# Altium schematic symbol library BSPD_Schlib.SchLib: 27 symbols (part 1 of 2)
Pins are listed as number, name and electrical type; pins without a type are passive.

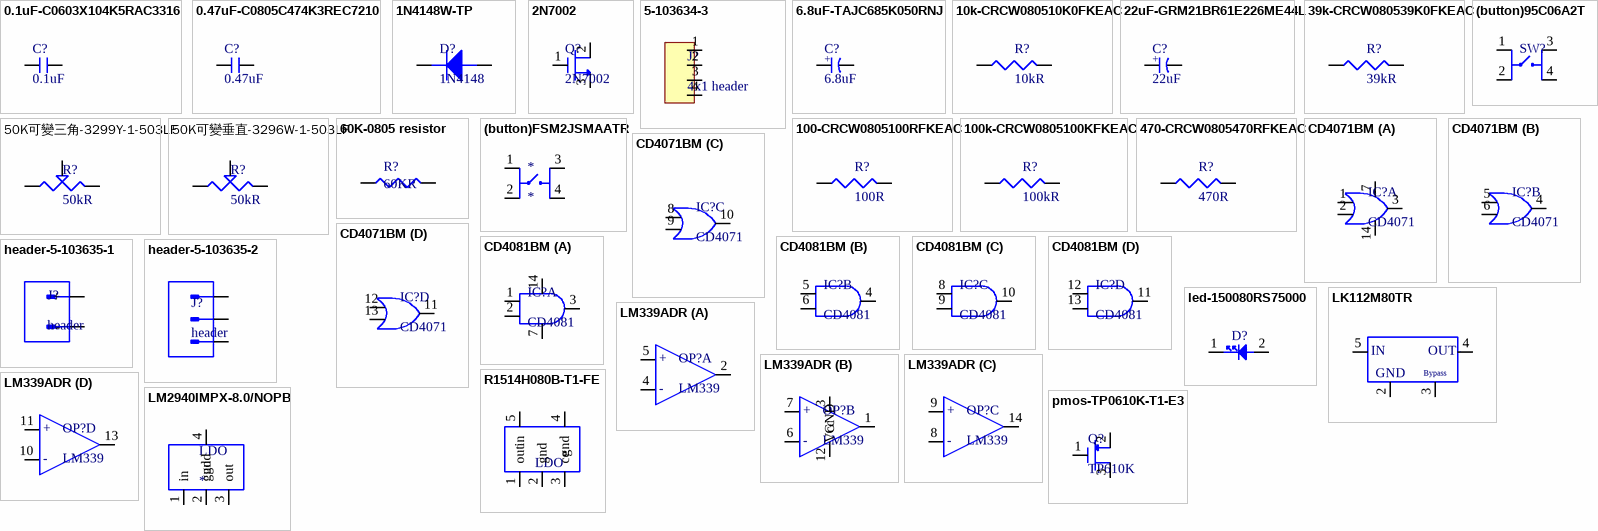
[diagram p0: symbols 0.1uF-C0603X104K5RAC3316 to R1514H080B-T1-FE]

## 0.1uF-C0603X104K5RAC3316
designator C?, comment 0.1uF
Cap Ceramic 0.1uF 50V X7R 10% Pad SMD 0603 Flexible Termination 125C Automotive; Manufacturer: KEMET; Manufacturer Part Number: C0603X104K5RAC3316; Supplier 1: Mouser; Supplier Part Number 1: 80-C0603X104K5R3316; Stock 1: 9731; Pricing 1: 1 = 0.19000, 10 = 0.12700, 100 = 0.06400, 500 = 0.04400, 1000 = 0.03800, 4000 = 0.03700 (USD); ComponentLink1URL: http://datasheet.octopart.com/C0603X104K5RAC3316-KEMET-datasheet-136663908.pdf?src-supplier=Allied+Electronics; ComponentLink1Description: http://datasheet.octopart.com/C0603X104K5RAC3316-KEMET-datasheet-136663908.pdf?src-supplier=Allied+Electronics
footprint 0603-0.1uF-Capacitor (Chip Capacitor, 2-Leads, Body 1.60x0.85mm, IPC Medium Density)
pins: 1, 2

## 0.47uF-C0805C474K3REC7210
designator C?, comment 0.47uF
Cap Cer 0805 470NF 25V X7R 10%; Manufacturer: KEMET; Manufacturer Part Number: C0805C474K3REC7210; Supplier 1: Mouser; Stock 1: 9935; Pricing 1: 1 = 0.30000, 10 = 0.14000, 100 = 0.09000, 500 = 0.08000, 1000 = 0.07000, 2000 = 0.06000 (USD); ComponentLink1URL: https://api.kemet.com/component-edge/download/datasheet/C0805C474K3REC7210.pdf?src-supplier=Digi-Key; ComponentLink1Description: https://api.kemet.com/component-edge/download/datasheet/C0805C474K3REC7210.pdf?src-supplier=Digi-Key; Supplier Part Number 1: 80-C0805C474K3RECLR
footprint 0805-0.47uF-CAPACITOR (Chip Capacitor, 2-Leads, Body 2.00x1.25mm, IPC Medium Density)
pins: 1, 2

## 1N4148W-TP
designator D?, comment 1N4148
1N4148W Series 100 V 150 mA 4 ns SMT High Speed Switching Diode - SOD-123; Manufacturer: MCC; Manufacturer Part Number: 1N4148W-TP; Max Surge Current: 2A; Forward Voltage: 1V; Forward Current: 150mA; Recovery Time: 4ns; Max Reverse Leakage Current: 5uA; Max Repetitive Reverse Voltage (Vrrm): 100V; Power Dissipation: 400mW; Max Forward Surge Current (Ifsm): 1A; Element Configuration: Single; Polarity: Standard; Capacitance: 4pF; Supplier 1: Digi-Key; Supplier Part Number 1: 1N4148WTPMSCT-ND; Stock 1: 726390; Pricing 1: 1 = 0.10000, 10 = 0.08100, 100 = 0.03400, 500 = 0.02670, 1000 = 0.01854 (USD); Mount: Surface Mount; Number of Pins: 2; Min Operating Temperature: -65°C; Max Operating Temperature: 150°C; Packaging: Tape and Reel; Package Quantity: 3000; Average Rectified Current: 150mA; Reverse Recovery Time: 4ns; Peak Non-Repetitive Surge Current: 2A; Voltage Rating (DC): 100V; Current Rating: 150mA; Output Current: 150mA; Max Reverse Voltage (DC): 100V; Length: 2.85mm; Height: 1.2mm; Width: 1.8mm; Radiation Hardening: No; REACH SVHC: Unknown; Lead Free: Lead Free; ComponentLink1URL: https://datasheet.ciiva.com/1243/1684829-1243908.pdf?src-supplier=Newark; ComponentLink1Description: https://datasheet.ciiva.com/1243/1684829-1243908.pdf?src-supplier=Newark; ComponentLink2URL: https://datasheet.ciiva.com/16836/1n4148wsod123-16836277.pdf?src-supplier=Future+Electronics; ComponentLink2Description: https://datasheet.ciiva.com/16836/1n4148wsod123-16836277.pdf?src-supplier=Future+Electronics; ComponentLink3URL: https://datasheet.ciiva.com/4435/1n4148wsod123-48460-4435223.pdf?src-supplier=Mouser; ComponentLink3Description: https://datasheet.ciiva.com/4435/1n4148wsod123-48460-4435223.pdf?src-supplier=Mouser; ComponentLink4URL: https://datasheet.ciiva.com/14557/70055519-14557767.pdf?src-supplier=Allied+Electronics; ComponentLink4Description: https://datasheet.ciiva.com/14557/70055519-14557767.pdf?src-supplier=Allied+Electronics; ComponentLink5URL: https://datasheet.ciiva.com/911/1n4148wsod123-911676.pdf?src-supplier=Digi-Key; ComponentLink5Description: https://datasheet.ciiva.com/911/1n4148wsod123-911676.pdf?src-supplier=Digi-Key; ComponentLink6URL: https://datasheet.ciiva.com/7622/1684829-7622556.pdf?src-supplier=Element14; ComponentLink6Description: https://datasheet.ciiva.com/7622/1684829-7622556.pdf?src-supplier=Element14; ComponentLink7URL: https://datasheet.ciiva.com/911/1n4148wsod123-911677.pdf?src-supplier=Digi-Key; ComponentLink7Description: https://datasheet.ciiva.com/911/1n4148wsod123-911677.pdf?src-supplier=Digi-Key; ComponentLink8URL: https://datasheet.ciiva.com/911/1n4148wsod123-911678.pdf?src-supplier=Digi-Key; ComponentLink8Description: https://datasheet.ciiva.com/911/1n4148wsod123-911678.pdf?src-supplier=Digi-Key; ComponentLink9URL: https://datasheet.ciiva.com/22747/1684829-22747439.pdf?src-supplier=Element14; ComponentLink9Description: https://datasheet.ciiva.com/22747/1684829-22747439.pdf?src-supplier=Element14; ComponentLink10URL: http://datasheet.octopart.com/1N4148W-TP-Micro-Commercial-datasheet-60845.pdf?src-supplier=Element14; ComponentLink10Description: http://datasheet.octopart.com/1N4148W-TP-Micro-Commercial-datasheet-60845.pdf?src-supplier=Element14; ComponentLink11URL: http://datasheet.octopart.com/1N4148W-TP-MCC-datasheet-8327246.pdf?src-supplier=Future+Electronics; ComponentLink11Description: http://datasheet.octopart.com/1N4148W-TP-MCC-datasheet-8327246.pdf?src-supplier=Future+Electronics; ComponentLink12URL: http://datasheet.octopart.com/1N4148W-TP-MCC-datasheet-124568.pdf?src-supplier=Future+Electronics; ComponentLink12Description: http://datasheet.octopart.com/1N4148W-TP-MCC-datasheet-124568.pdf?src-supplier=Future+Electronics; ComponentLink13URL: http://datasheet.octopart.com/1N4148W-TP-MCC-datasheet-10003094.pdf?src-supplier=Allied+Electronics; ComponentLink13Description: http://datasheet.octopart.com/1N4148W-TP-MCC-datasheet-10003094.pdf?src-supplier=Allied+Electronics; ComponentLink14URL: http://datasheet.octopart.com/1N4148W-TP-Micro-Commercial-datasheet-11773887.pdf?src-supplier=Arrow; ComponentLink14Description: http://datasheet.octopart.com/1N4148W-TP-Micro-Commercial-datasheet-11773887.pdf?src-supplier=Arrow; ComponentLink15URL: http://datasheet.octopart.com/1N4148W-TP-Micro-Commercial-datasheet-13551187.pdf?src-supplier=Future+Electronics; ComponentLink15Description: http://datasheet.octopart.com/1N4148W-TP-Micro-Commercial-datasheet-13551187.pdf?src-supplier=Future+Electronics; ComponentLink16URL: http://datasheet.octopart.com/1N4148W-TP-MCC-datasheet-133511570.pdf?src-supplier=Future+Electronics; ComponentLink16Description: http://datasheet.octopart.com/1N4148W-TP-MCC-datasheet-133511570.pdf?src-supplier=Future+Electronics; ComponentLink17URL: http://datasheet.octopart.com/1N4148W-TP-MCC-datasheet-134792309.pdf?src-supplier=TME; ComponentLink17Description: http://datasheet.octopart.com/1N4148W-TP-MCC-datasheet-134792309.pdf?src-supplier=TME; Supplier 2: Mouser; Supplier Part Number 2: 833-1N4148W-TP
footprint 1N4148W-TP (SODFL, 2-Leads, Body 1.60x4.18mm, IPC Medium Density)
pins: 1 -, 2 +

## 2N7002
designator Q?
MOSFET 60V 7.5Ohm; Manufacturer: Microchip Supertex; Continuous Drain Current (ID): 115mA; Drain to Source Resistance: 7.5R; Gate to Source Voltage (Vgs): 30V; Element Configuration: Single; Number of Channels: 1; Max Power Dissipation: 360mW; Supplier 1: Mouser; Manufacturer Part Number: 2N7002; RoHS: No; Case/Package: SOT-23-3; Number of Pins: 3; Weight: 0.050717oz; Min Operating Temperature: -55°C; Max Operating Temperature: 150°C; Drain to Source Voltage (Vdss): 60V; Voltage Rating (DC): 60V; Current Rating: 115mA; Package Quantity: 3000; Length: 2.92mm; Height: 0.93mm; Width: 1.3mm; Lead Free: Lead Free; REACH SVHC: No SVHC; ComponentLink1URL: http://components.arrow.com/part/dataview/2250345S543536N1389?src-supplier=Arrow; ComponentLink1Description: http://components.arrow.com/part/dataview/2250345S543536N1389?src-supplier=Arrow; ComponentLink2URL: http://www.mouser.com/ds/2/268/supertex_2n7002-522862.pdf?src-supplier=Mouser; ComponentLink2Description: http://www.mouser.com/ds/2/268/supertex_2n7002-522862.pdf?src-supplier=Mouser; Supplier Part Number 1: 689-2N7002
footprint 2N7002 (SOT23, 3-Leads, Body 2.90x2.45mm, Pitch 0.95mm, IPC Medium Density)
pins: 1, 2, 3

## 5-103634-3
designator J?, comment 4x1 header
Conn Shrouded Header (4 Sides) HDR 4 POS 2.54mm Solder RA Thru-Hole Box/Tube; Manufacturer: TE Connectivity; Manufacturer Part Number: 5-103634-3; Contact Resistance: 15mR; Current Rating: 3A; Voltage Rating: 250V; Number of Positions: 4; Insulation Resistance: 5GR; Connector Type: Plug; Backwall/Post Interruptions: No (Without); Contact Retention: Yes (With); Plating Thickness: 2.54um; PCB Mount Retention: Without; PCB Mounting Orientation: Right Angle; Row Spacing: 0.1inch; Tail Length: 3.3mm; Approvals: CSA; Supplier 1: Mouser; Supplier Part Number 1: 571-5-103634-3; Stock 1: 289; Pricing 1: 1 = 1.23000, 10 = 1.02000, 100 = 0.91700, 500 = 0.79700, 1000 = 0.72100, 2500 = 0.58900, 25000 = 0.58000, 50000 = 0.56600 (USD); Mount: Through Hole; Color: Black; Contact Plating: Tin; Contact Material: Brass; Housing Color: Black; Housing Material: Thermoplastic; Contact Shape: Square; Min Operating Temperature: -65°C; Max Operating Temperature: 105°C; Package Quantity: 42; Number of Rows: 1; Packaging: Rail/Tube; Contact Gender: Male; Termination: Crimp; Number of Contacts: 4; Orientation: Right Angle; Mating Alignment: Yes (With); Mating Retention: Yes (With); PCB Mount Alignment: No (Without); Strain Relief: No (Without); Contact Current Rating: 3A; Length: 12.7mm; Height: 13.59mm; Pitch: 2.54mm; Contact Mating Length: 0.23inch; Depth: 13.59mm; REACH SVHC: No SVHC; Flammability Rating: UL94 V-0; ComponentLink1URL: https://datasheet.ciiva.com/709/eng-cd-103634-u2-709984.pdf?src-supplier=Digi-Key; ComponentLink1Description: https://datasheet.ciiva.com/709/eng-cd-103634-u2-709984.pdf?src-supplier=Digi-Key; ComponentLink2URL: https://datasheet.ciiva.com/30493/0900766b80f9a687-30493821.pdf?src-supplier=RSComponents; ComponentLink2Description: https://datasheet.ciiva.com/30493/0900766b80f9a687-30493821.pdf?src-supplier=RSComponents; ComponentLink3URL: https://datasheet.ciiva.com/16497/eng-cs-1307819-section-5-cont-0808-16497095.pdf?src-supplier=Avnet+Asia; ComponentLink3Description: https://datasheet.ciiva.com/16497/eng-cs-1307819-section-5-cont-0808-16497095.pdf?src-supplier=Avnet+Asia; ComponentLink4URL: https://datasheet.ciiva.com/7800/1651634-7800366.pdf?src-supplier=Element14; ComponentLink4Description: https://datasheet.ciiva.com/7800/1651634-7800366.pdf?src-supplier=Element14; ComponentLink5URL: https://datasheet.ciiva.com/14644/70087799-14644933.pdf?src-supplier=Allied+Electronics; ComponentLink5Description: https://datasheet.ciiva.com/14644/70087799-14644933.pdf?src-supplier=Allied+Electronics; ComponentLink6URL: https://datasheet.ciiva.com/9484/eng-cs-1307819-section-5-cont-0808-9484872.pdf?src-supplier=Avnet; ComponentLink6Description: https://datasheet.ciiva.com/9484/eng-cs-1307819-section-5-cont-0808-9484872.pdf?src-supplier=Avnet; ComponentLink7URL: https://datasheet.ciiva.com/46442/1651634-46442506.pdf?src-supplier=Element14; ComponentLink7Description: https://datasheet.ciiva.com/46442/1651634-46442506.pdf?src-supplier=Element14; ComponentLink8URL: https://datasheet.ciiva.com/16355/eng-ds-4-1773458-0-ampmodu-mte-interconnect-sys-0411-16355979.pdf?src-supplier=Future+Electronics; ComponentLink8Description: https://datasheet.ciiva.com/16355/eng-ds-4-1773458-0-ampmodu-mte-interconnect-sys-0411-16355979.pdf?src-supplier=Future+Electronics; ComponentLink9URL: http://datasheet.octopart.com/5-103634-3-TE-Connectivity-datasheet-11077636.pdf?src-supplier=Newark; ComponentLink9Description: http://datasheet.octopart.com/5-103634-3-TE-Connectivity-datasheet-11077636.pdf?src-supplier=Newark; ComponentLink10URL: http://datasheet.octopart.com/5-103634-3-TE-Connectivity-datasheet-136861139.pdf?src-supplier=ShanghaiCT; ComponentLink10Description: http://datasheet.octopart.com/5-103634-3-TE-Connectivity-datasheet-136861139.pdf?src-supplier=ShanghaiCT; ComponentLink11URL: http://sigma.octopart.com/15108092/technical_drawing/TE-Connectivity-5-103634-3.pdf?src-supplier=Farnell; ComponentLink11Description: http://sigma.octopart.com/15108092/technical_drawing/TE-Connectivity-5-103634-3.pdf?src-supplier=Farnell; ComponentLink12URL: http://datasheet.octopart.com/5-103634-3-TE-Connectivity-datasheet-8324834.pdf?src-supplier=Master+Electronics; ComponentLink12Description: http://datasheet.octopart.com/5-103634-3-TE-Connectivity-datasheet-8324834.pdf?src-supplier=Master+Electronics; ComponentLink13URL: http://sigma.octopart.com/101751519/technical_drawing/TE-Connectivity-5-103634-3.pdf?src-supplier=Future+Electronics; ComponentLink13Description: http://sigma.octopart.com/101751519/technical_drawing/TE-Connectivity-5-103634-3.pdf?src-supplier=Future+Electronics; ComponentLink14URL: http://sigma.octopart.com/77852267/technical_drawing/TE-Connectivity-5-103634-3.pdf?src-supplier=TE+Connectivity; ComponentLink14Description: http://sigma.octopart.com/77852267/technical_drawing/TE-Connectivity-5-103634-3.pdf?src-supplier=TE+Connectivity; ComponentLink15URL: http://datasheet.octopart.com/5-103634-3-Agastat-datasheet-13560061.pdf?src-supplier=TE+Connectivity; ComponentLink15Description: http://datasheet.octopart.com/5-103634-3-Agastat-datasheet-13560061.pdf?src-supplier=TE+Connectivity; ComponentLink16URL: http://datasheet.octopart.com/5-103634-3-TE-Connectivity-datasheet-9653333.pdf?src-supplier=Allied+Electronics; ComponentLink16Description: http://datasheet.octopart.com/5-103634-3-TE-Connectivity-datasheet-9653333.pdf?src-supplier=Allied+Electronics; ComponentLink17URL: http://datasheet.octopart.com/5-103634-3-Tyco-Electronics-datasheet-508243.pdf?src-supplier=Future+Electronics; ComponentLink17Description: http://datasheet.octopart.com/5-103634-3-Tyco-Electronics-datasheet-508243.pdf?src-supplier=Future+Electronics; ComponentLink18URL: http://datasheet.octopart.com/5-103634-3-Tyco-Electronics-datasheet-8817613.pdf?src-supplier=Future+Electronics; ComponentLink18Description: http://datasheet.octopart.com/5-103634-3-Tyco-Electronics-datasheet-8817613.pdf?src-supplier=Future+Electronics; catagory: header
footprint *TE_5-103634-3
footprint *TE_5-103634-3
pins: 1 79, 2 80, 3 81, 4 82

## 6.8uF-TAJC685K050RNJ
designator C?, comment 6.8uF
Cap Tant Solid 6.8uF 50V C CASE 10% (6 X 3.2 X 2.6mm) Inward L SMD 6032-28 1 Ohm 125C T/R; Manufacturer: AVX; Manufacturer Part Number: TAJC685K050RNJ; Dielectric Material: Tantalum; ESR (Equivalent Series Resistance): 1R; Leakage Current: 3.4uA; Polarity: Polar; Dissipation Factor: 6%; Supplier 1: Mouser; Supplier Part Number 1: 581-TAJC685K050RNJ; Stock 1: 13768; Pricing 1: 1 = 1.27000, 10 = 0.96300, 100 = 0.75300, 500 = 0.49500, 1000 = 0.43600, 2500 = 0.42200 (USD); Mount: Surface Mount; Case/Package: Molded; Weight: 0.005291oz; Case Code (Metric): 6032; Case Code (Imperial): 2312; Min Operating Temperature: -55°C; Max Operating Temperature: 125°C; Capacitance: 6.8uF; Tolerance: 10%; Voltage Rating: 50V; Packaging: Tape and Reel; Package Quantity: 1; Termination: SMD/SMT; Voltage Rating (DC): 50V; Features: General Purpose; Length: 6mm; Height: 2.8mm; Width: 0.126inch; Height - Seated (Max): 0.11inch; Depth: 3.2mm; Radiation Hardening: No; REACH SVHC: No SVHC; Lead Free: Lead Free; ComponentLink1URL: https://datasheet.ciiva.com/267/taj-267945.pdf?src-supplier=Digi-Key; ComponentLink1Description: https://datasheet.ciiva.com/267/taj-267945.pdf?src-supplier=Digi-Key; ComponentLink2URL: https://datasheet.ciiva.com/267/taj-267946.pdf?src-supplier=Digi-Key; ComponentLink2Description: https://datasheet.ciiva.com/267/taj-267946.pdf?src-supplier=Digi-Key; ComponentLink3URL: https://datasheet.ciiva.com/267/taj-267947.pdf?src-supplier=Digi-Key; ComponentLink3Description: https://datasheet.ciiva.com/267/taj-267947.pdf?src-supplier=Digi-Key; ComponentLink4URL: https://datasheet.ciiva.com/12910/taj-27497-12910591.pdf?src-supplier=Mouser; ComponentLink4Description: https://datasheet.ciiva.com/12910/taj-27497-12910591.pdf?src-supplier=Mouser; ComponentLink5URL: https://datasheet.ciiva.com/17338/taj-17338791.pdf?src-supplier=Avnet+Europe; ComponentLink5Description: https://datasheet.ciiva.com/17338/taj-17338791.pdf?src-supplier=Avnet+Europe; ComponentLink6URL: http://datasheet.octopart.com/TAJC685K050RNJ-AVX-datasheet-50868559.pdf?src-supplier=AVX; ComponentLink6Description: http://datasheet.octopart.com/TAJC685K050RNJ-AVX-datasheet-50868559.pdf?src-supplier=AVX; ComponentLink7URL: http://datasheet.octopart.com/TAJC685K050RNJ-AVX-datasheet-5313859.pdf?src-supplier=Element14; ComponentLink7Description: http://datasheet.octopart.com/TAJC685K050RNJ-AVX-datasheet-5313859.pdf?src-supplier=Element14; ComponentLink8URL: http://datasheet.octopart.com/TAJC685K050RNJ-AVX-datasheet-78694144.pdf?src-supplier=Element14; ComponentLink8Description: http://datasheet.octopart.com/TAJC685K050RNJ-AVX-datasheet-78694144.pdf?src-supplier=Element14; ComponentLink9URL: http://datasheet.octopart.com/TAJC685K050RNJ-AVX-Interconnect---Elco-datasheet-8359467.pdf; ComponentLink9Description: http://datasheet.octopart.com/TAJC685K050RNJ-AVX-Interconnect---Elco-datasheet-8359467.pdf; ComponentLink10URL: http://datasheet.octopart.com/TAJC685K050RNJ-AVX-Interconnect---Elco-datasheet-8398506.pdf; ComponentLink10Description: http://datasheet.octopart.com/TAJC685K050RNJ-AVX-Interconnect---Elco-datasheet-8398506.pdf; ComponentLink11URL: http://datasheet.octopart.com/TAJC685K050RNJ-AVX-Interconnect---Elco-datasheet-12511273.pdf; ComponentLink11Description: http://datasheet.octopart.com/TAJC685K050RNJ-AVX-Interconnect---Elco-datasheet-12511273.pdf; ComponentLink12URL: http://datasheet.octopart.com/TAJC685K050RNJ-AVX-Interconnect---Elco-datasheet-5308206.pdf?src-supplier=Factory+Futures; ComponentLink12Description: http://datasheet.octopart.com/TAJC685K050RNJ-AVX-Interconnect---Elco-datasheet-5308206.pdf?src-supplier=Factory+Futures; ComponentLink13URL: http://datasheet.octopart.com/TAJC685K050RNJ-AVX-Interconnect---Elco-datasheet-5393561.pdf?src-supplier=Factory+Futures; ComponentLink13Description: http://datasheet.octopart.com/TAJC685K050RNJ-AVX-Interconnect---Elco-datasheet-5393561.pdf?src-supplier=Factory+Futures; ComponentLink14URL: http://datasheet.octopart.com/TAJC685K050RNJ-AVX-Interconnect---Elco-datasheet-5428838.pdf?src-supplier=Factory+Futures; ComponentLink14Description: http://datasheet.octopart.com/TAJC685K050RNJ-AVX-Interconnect---Elco-datasheet-5428838.pdf?src-supplier=Factory+Futures; ComponentLink15URL: http://datasheet.octopart.com/TAJC685K050RNJ-AVX-Interconnect---Elco-datasheet-8324253.pdf?src-supplier=Factory+Futures; ComponentLink15Description: http://datasheet.octopart.com/TAJC685K050RNJ-AVX-Interconnect---Elco-datasheet-8324253.pdf?src-supplier=Factory+Futures; ComponentLink16URL: http://datasheet.octopart.com/TAJC685K050RNJ-AVX-Interconnect---Elco-datasheet-8447299.pdf?src-supplier=Factory+Futures; ComponentLink16Description: http://datasheet.octopart.com/TAJC685K050RNJ-AVX-Interconnect---Elco-datasheet-8447299.pdf?src-supplier=Factory+Futures; ComponentLink17URL: http://datasheet.octopart.com/TAJC685K050RNJ-AVX-Interconnect---Elco-datasheet-8621976.pdf?src-supplier=Factory+Futures; ComponentLink17Description: http://datasheet.octopart.com/TAJC685K050RNJ-AVX-Interconnect---Elco-datasheet-8621976.pdf?src-supplier=Factory+Futures; ComponentLink18URL: http://datasheet.octopart.com/TAJC685K050RNJ-AVX-Interconnect---Elco-datasheet-8701730.pdf?src-supplier=Factory+Futures; ComponentLink18Description: http://datasheet.octopart.com/TAJC685K050RNJ-AVX-Interconnect---Elco-datasheet-8701730.pdf?src-supplier=Factory+Futures; ComponentLink19URL: http://datasheet.octopart.com/TAJC685K050RNJ-AVX-Interconnect---Elco-datasheet-8715220.pdf?src-supplier=Factory+Futures; ComponentLink19Description: http://datasheet.octopart.com/TAJC685K050RNJ-AVX-Interconnect---Elco-datasheet-8715220.pdf?src-supplier=Factory+Futures; ComponentLink20URL: http://datasheet.octopart.com/TAJC685K050RNJ-AVX-Interconnect---Elco-datasheet-8836325.pdf?src-supplier=Factory+Futures; ComponentLink20Description: http://datasheet.octopart.com/TAJC685K050RNJ-AVX-Interconnect---Elco-datasheet-8836325.pdf?src-supplier=Factory+Futures; ComponentLink21URL: http://datasheet.octopart.com/TAJC685K050RNJ-AVX-Interconnect---Elco-datasheet-8853265.pdf?src-supplier=Factory+Futures; ComponentLink21Description: http://datasheet.octopart.com/TAJC685K050RNJ-AVX-Interconnect---Elco-datasheet-8853265.pdf?src-supplier=Factory+Futures; ComponentLink22URL: http://datasheet.octopart.com/TAJC685K050RNJ-AVX-Interconnect---Elco-datasheet-8858887.pdf?src-supplier=Factory+Futures; ComponentLink22Description: http://datasheet.octopart.com/TAJC685K050RNJ-AVX-Interconnect---Elco-datasheet-8858887.pdf?src-supplier=Factory+Futures; ComponentLink23URL: http://datasheet.octopart.com/TAJC685K050RNJ-AVX-Interconnect---Elco-datasheet-8877386.pdf?src-supplier=Factory+Futures; ComponentLink23Description: http://datasheet.octopart.com/TAJC685K050RNJ-AVX-Interconnect---Elco-datasheet-8877386.pdf?src-supplier=Factory+Futures; ComponentLink24URL: http://datasheet.octopart.com/TAJC685K050RNJ-AVX-Interconnect---Elco-datasheet-10028080.pdf?src-supplier=Factory+Futures; ComponentLink24Description: http://datasheet.octopart.com/TAJC685K050RNJ-AVX-Interconnect---Elco-datasheet-10028080.pdf?src-supplier=Factory+Futures; ComponentLink25URL: http://datasheet.octopart.com/TAJC685K050RNJ-AVX-Interconnect---Elco-datasheet-10193294.pdf?src-supplier=Factory+Futures; ComponentLink25Description: http://datasheet.octopart.com/TAJC685K050RNJ-AVX-Interconnect---Elco-datasheet-10193294.pdf?src-supplier=Factory+Futures; ComponentLink26URL: http://datasheet.octopart.com/TAJC685K050RNJ-AVX-Interconnect---Elco-datasheet-10285639.pdf?src-supplier=Factory+Futures; ComponentLink26Description: http://datasheet.octopart.com/TAJC685K050RNJ-AVX-Interconnect---Elco-datasheet-10285639.pdf?src-supplier=Factory+Futures; ComponentLink27URL: http://datasheet.octopart.com/TAJC685K050RNJ-AVX-Interconnect---Elco-datasheet-10380087.pdf?src-supplier=Factory+Futures; ComponentLink27Description: http://datasheet.octopart.com/TAJC685K050RNJ-AVX-Interconnect---Elco-datasheet-10380087.pdf?src-supplier=Factory+Futures; ComponentLink28URL: http://datasheet.octopart.com/TAJC685K050RNJ-AVX-Interconnect---Elco-datasheet-10403705.pdf?src-supplier=Factory+Futures; ComponentLink28Description: http://datasheet.octopart.com/TAJC685K050RNJ-AVX-Interconnect---Elco-datasheet-10403705.pdf?src-supplier=Factory+Futures; ComponentLink29URL: http://datasheet.octopart.com/TAJC685K050RNJ-AVX-Interconnect---Elco-datasheet-10545425.pdf?src-supplier=Factory+Futures; ComponentLink29Description: http://datasheet.octopart.com/TAJC685K050RNJ-AVX-Interconnect---Elco-datasheet-10545425.pdf?src-supplier=Factory+Futures; ComponentLink30URL: http://datasheet.octopart.com/TAJC685K050RNJ-AVX-Interconnect---Elco-datasheet-10620092.pdf?src-supplier=Factory+Futures; ComponentLink30Description: http://datasheet.octopart.com/TAJC685K050RNJ-AVX-Interconnect---Elco-datasheet-10620092.pdf?src-supplier=Factory+Futures; ComponentLink31URL: http://datasheet.octopart.com/TAJC685K050RNJ-AVX-Interconnect---Elco-datasheet-10839255.pdf?src-supplier=Factory+Futures; ComponentLink31Description: http://datasheet.octopart.com/TAJC685K050RNJ-AVX-Interconnect---Elco-datasheet-10839255.pdf?src-supplier=Factory+Futures; ComponentLink32URL: http://datasheet.octopart.com/TAJC685K050RNJ-AVX-Interconnect---Elco-datasheet-10851837.pdf?src-supplier=Factory+Futures; ComponentLink32Description: http://datasheet.octopart.com/TAJC685K050RNJ-AVX-Interconnect---Elco-datasheet-10851837.pdf?src-supplier=Factory+Futures; ComponentLink33URL: http://datasheet.octopart.com/TAJC685K050RNJ-AVX-Interconnect---Elco-datasheet-10916590.pdf?src-supplier=Factory+Futures; ComponentLink33Description: http://datasheet.octopart.com/TAJC685K050RNJ-AVX-Interconnect---Elco-datasheet-10916590.pdf?src-supplier=Factory+Futures; ComponentLink34URL: http://datasheet.octopart.com/TAJC685K050RNJ-AVX-Interconnect---Elco-datasheet-11475269.pdf?src-supplier=Factory+Futures; ComponentLink34Description: http://datasheet.octopart.com/TAJC685K050RNJ-AVX-Interconnect---Elco-datasheet-11475269.pdf?src-supplier=Factory+Futures; ComponentLink35URL: http://datasheet.octopart.com/TAJC685K050RNJ-AVX-datasheet-48507738.pdf?src-supplier=Future+Electronics; ComponentLink35Description: http://datasheet.octopart.com/TAJC685K050RNJ-AVX-datasheet-48507738.pdf?src-supplier=Future+Electronics; ComponentLink36URL: http://datasheet.octopart.com/TAJC685K050RNJ-AVX-datasheet-66442782.pdf?src-supplier=Newark; ComponentLink36Description: http://datasheet.octopart.com/TAJC685K050RNJ-AVX-datasheet-66442782.pdf?src-supplier=Newark; ComponentLink37URL: http://datasheet.octopart.com/TAJC685K050RNJ-AVX-datasheet-62304617.pdf?src-supplier=Farnell; ComponentLink37Description: http://datasheet.octopart.com/TAJC685K050RNJ-AVX-datasheet-62304617.pdf?src-supplier=Farnell; ComponentLink38URL: http://datasheet.octopart.com/TAJ-Series---Standard-Tantalum-AVX-datasheet-family-88.pdf; ComponentLink38Description: http://datasheet.octopart.com/TAJ-Series---Standard-Tantalum-AVX-datasheet-family-88.pdf
footprint 2312-6.8uF-Capacitor (Chip Capacitor, 2-Leads, Body 6.00x3.25mm, IPC Medium Density)
pins: 1 +, 2 -

## 10k-CRCW080510K0FKEAC
designator R?, comment 10kR
Res Thick Film 0805 10K Ohm 1% 1/8W ±100ppm/°C Molded SMD Paper T/R; Manufacturer: Vishay; Manufacturer Part Number: CRCW080510K0FKEAC; Power Rating: 125mW; Resistance: 10000R; Supplier 1: Mouser; Supplier Part Number 1: 71-CRCW080510K0FKEAC; Stock 1: 593292; Pricing 1: 1 = 0.10000, 10 = 0.05900, 100 = 0.02400, 1000 = 0.01000, 5000 = 0.00700, 10000 = 0.00600, 25000 = 0.00500 (USD); Case/Package: 0805; Tolerance: 1%; Lead Free: Lead Free; ComponentLink1URL: http://www.vishay.com/docs/28773/crcwce3.pdf?src-supplier=Digi-Key; ComponentLink1Description: http://www.vishay.com/docs/28773/crcwce3.pdf?src-supplier=Digi-Key; ComponentLink2URL: http://datasheet.octopart.com/CRCW080510K0FKEAC-Vishay-datasheet-100063072.pdf?src-supplier=Future+Electronics; ComponentLink2Description: http://datasheet.octopart.com/CRCW080510K0FKEAC-Vishay-datasheet-100063072.pdf?src-supplier=Future+Electronics
footprint 0805-Resistor (Chip Resistor, 2-Leads, Body 2.00x1.25mm, IPC Medium Density)
pins: 1, 2

## 22uF-GRM21BR61E226ME44L
designator C?, comment 22uF
0805 22 uF 25 V ±20% Tolerance X5R SMT Multilayer Ceramic Capacitor; Manufacturer: Murata; Manufacturer Part Number: GRM21BR61E226ME44L; Voltage Rating: 25V; Supplier 1: Mouser; Stock 1: 455135; Pricing 1: 1 = 0.49000, 10 = 0.34800, 100 = 0.22900, 250 = 0.22900, 500 = 0.16900, 1000 = 0.14400, 3000 = 0.11800, 6000 = 0.11000, 9000 = 0.10600 (USD); Mount: Surface Mount; Case/Package: 0805; Weight: 0.000335oz; Case Code (Metric): 2012; Case Code (Imperial): 0805; Material: Ceramic; Min Operating Temperature: -55°C; Max Operating Temperature: 85°C; Capacitance: 22uF; Tolerance: 20%; Packaging: Tape and Reel; Dielectric: X5R; Voltage: 25V; Termination: SMD/SMT; Composition: Ceramic; Voltage Rating (DC): 25V; Package Quantity: 3000; Length: 2mm; Height: 1.25mm; Width: 1.25mm; Thickness: 0.057inch; Depth: 1.25mm; REACH SVHC: No SVHC; Lead Free: Lead Free; ComponentLink1URL: https://datasheet.ciiva.com/22787/1747471-22787265.pdf?src-supplier=Farnell; ComponentLink1Description: https://datasheet.ciiva.com/22787/1747471-22787265.pdf?src-supplier=Farnell; ComponentLink2URL: https://datasheet.ciiva.com/7719/1747471-7719095.pdf?src-supplier=Element14; ComponentLink2Description: https://datasheet.ciiva.com/7719/1747471-7719095.pdf?src-supplier=Element14; ComponentLink3URL: https://datasheet.ciiva.com/28584/1747471-28584199.pdf?src-supplier=Element14; ComponentLink3Description: https://datasheet.ciiva.com/28584/1747471-28584199.pdf?src-supplier=Element14; ComponentLink4URL: http://datasheet.octopart.com/GRM21BR61E226ME44L-Murata-datasheet-62317286.pdf?src-supplier=Element14; ComponentLink4Description: http://datasheet.octopart.com/GRM21BR61E226ME44L-Murata-datasheet-62317286.pdf?src-supplier=Element14; ComponentLink5URL: http://datasheet.octopart.com/GRM21BR61E226ME44L-Murata-datasheet-8817987.pdf?src-supplier=Newark; ComponentLink5Description: http://datasheet.octopart.com/GRM21BR61E226ME44L-Murata-datasheet-8817987.pdf?src-supplier=Newark; ComponentLink6URL: http://datasheet.octopart.com/GRM21BR61E226ME44L-Murata-datasheet-14397511.pdf?src-supplier=Future+Electronics; ComponentLink6Description: http://datasheet.octopart.com/GRM21BR61E226ME44L-Murata-datasheet-14397511.pdf?src-supplier=Future+Electronics; ComponentLink7URL: http://datasheet.octopart.com/GRM21BR61E226ME44L-Murata-datasheet-17853151.pdf?src-supplier=Element14; ComponentLink7Description: http://datasheet.octopart.com/GRM21BR61E226ME44L-Murata-datasheet-17853151.pdf?src-supplier=Element14; ComponentLink8URL: http://datasheet.octopart.com/GRM21BR61E226ME44L-Murata-datasheet-22122223.pdf?src-supplier=Future+Electronics; ComponentLink8Description: http://datasheet.octopart.com/GRM21BR61E226ME44L-Murata-datasheet-22122223.pdf?src-supplier=Future+Electronics; ComponentLink9URL: http://datasheet.octopart.com/GRM21BR61E226ME44L-Murata-datasheet-59876780.pdf?src-supplier=TME; ComponentLink9Description: http://datasheet.octopart.com/GRM21BR61E226ME44L-Murata-datasheet-59876780.pdf?src-supplier=TME; ComponentLink10URL: http://datasheet.octopart.com/GRM21BR61E226ME44L-Murata-datasheet-8819587.pdf; ComponentLink10Description: http://datasheet.octopart.com/GRM21BR61E226ME44L-Murata-datasheet-8819587.pdf; ComponentLink11URL: http://datasheet.octopart.com/GRM21BR61E226ME44L-Murata-datasheet-10025737.pdf; ComponentLink11Description: http://datasheet.octopart.com/GRM21BR61E226ME44L-Murata-datasheet-10025737.pdf; ComponentLink12URL: http://datasheet.octopart.com/GRM21BR61E226ME44L-Murata-datasheet-11978611.pdf; ComponentLink12Description: http://datasheet.octopart.com/GRM21BR61E226ME44L-Murata-datasheet-11978611.pdf; ComponentLink13URL: http://datasheet.octopart.com/GRM21BR61E226ME44L-Murata-datasheet-12510076.pdf; ComponentLink13Description: http://datasheet.octopart.com/GRM21BR61E226ME44L-Murata-datasheet-12510076.pdf; ComponentLink14URL: http://datasheet.octopart.com/GRM21BR61E226ME44L-Murata-datasheet-12515295.pdf; ComponentLink14Description: http://datasheet.octopart.com/GRM21BR61E226ME44L-Murata-datasheet-12515295.pdf; Supplier Part Number 1: 81-GRM21BR61E226ME4L
footprint 0805-22uF-capacitor (Chip Capacitor, 2-Leads, Body 2.00x1.25mm, IPC Medium Density)
pins: 1 +, 2 -

## 39k-CRCW080539K0FKEAC
designator R?, comment 39kR
CRCW Thick Film Commodity Chip Resistor 0805 Size 39K Ohm 1% 0.125 W 100 ppm/K 2-Pin SMD Paper T/R; Manufacturer: Vishay; Manufacturer Part Number: CRCW080539K0FKEAC; Supplier 1: Mouser; Supplier Part Number 1: 71-CRCW080539K0FKEAC; Stock 1: 13079; Pricing 1: 1 = 0.16000, 10 = 0.05900, 100 = 0.02400, 1000 = 0.01000, 5000 = 0.00700, 10000 = 0.00600, 25000 = 0.00500 (USD)
footprint 0805-Resistor (Chip Resistor, 2-Leads, Body 2.00x1.25mm, IPC Medium Density)
pins: 1, 2

## 50K可變三角-3299Y-1-503LF
designator R?, comment 50kR
Trimmer; Cermet; Rest 50 Kilohms; PCB; 25 Turns; Pwr-Rtg 0.5W; Manufacturer: Bourns; Manufacturer Part Number: 3299Y-1-503LF; Power Rating: 500mW; Tolerance: 10%; Voltage Rating: 300V; Number of Turns: 25; Temperature Coefficient: 100ppm/°C; Voltage Rating (DC): 500V; Supplier 1: Digi-Key; Supplier Part Number 1: 3299Y-503LF-ND; Stock 1: 1982; Pricing 1: 1 = 3.39000, 10 = 2.96800, 25 = 2.65000, 50 = 2.49100, 100 = 2.43800, 250 = 2.33200, 500 = 1.90800, 1000 = 1.64300, 5000 = 1.48400 (USD); Mount: Panel; Weight: 0.035oz; Color: Blue; Min Operating Temperature: -55°C; Max Operating Temperature: 125°C; Packaging: Rail/Tube; Resistance: 50kR; Composition: Cermet; Termination: Pin; Taper: Linear; Military Standard: Not; Length: 9.53mm; Height: 11.55mm; Width: 9.53mm; Depth: 6.1mm; Radiation Hardening: No; REACH SVHC: No SVHC; Lead Free: Lead Free; ComponentLink1URL: https://datasheet.ciiva.com/19482/1157456-19482033.pdf?src-supplier=Jameco; ComponentLink1Description: https://datasheet.ciiva.com/19482/1157456-19482033.pdf?src-supplier=Jameco; ComponentLink2URL: https://datasheet.ciiva.com/16716/70153599-16716886.pdf?src-supplier=Allied+Electronics; ComponentLink2Description: https://datasheet.ciiva.com/16716/70153599-16716886.pdf?src-supplier=Allied+Electronics; ComponentLink3URL: https://datasheet.ciiva.com/7912/1815112-7912985.pdf?src-supplier=Element14; ComponentLink3Description: https://datasheet.ciiva.com/7912/1815112-7912985.pdf?src-supplier=Element14; ComponentLink4URL: https://datasheet.ciiva.com/3266/3299-3266250.pdf?src-supplier=Avnet; ComponentLink4Description: https://datasheet.ciiva.com/3266/3299-3266250.pdf?src-supplier=Avnet; ComponentLink5URL: https://datasheet.ciiva.com/16812/3299-16812795.pdf?src-supplier=Avnet+Europe; ComponentLink5Description: https://datasheet.ciiva.com/16812/3299-16812795.pdf?src-supplier=Avnet+Europe; ComponentLink6URL: http://datasheet.octopart.com/3299Y-1-503LF-Bourns-datasheet-450.pdf?src-supplier=Factory+Futures; ComponentLink6Description: http://datasheet.octopart.com/3299Y-1-503LF-Bourns-datasheet-450.pdf?src-supplier=Factory+Futures; ComponentLink7URL: http://datasheet.octopart.com/3299Y-1-503LF-Bourns-datasheet-8862482.pdf?src-supplier=Electro+Sonic; ComponentLink7Description: http://datasheet.octopart.com/3299Y-1-503LF-Bourns-datasheet-8862482.pdf?src-supplier=Electro+Sonic; ComponentLink8URL: http://datasheet.octopart.com/3299Y-1-503LF-Bourns-datasheet-68298997.pdf?src-supplier=Newark; ComponentLink8Description: http://datasheet.octopart.com/3299Y-1-503LF-Bourns-datasheet-68298997.pdf?src-supplier=Newark; ComponentLink9URL: http://datasheet.octopart.com/3299Y-1-503LF-Bourns-datasheet-25360156.pdf?src-supplier=Allied+Electronics; ComponentLink9Description: http://datasheet.octopart.com/3299Y-1-503LF-Bourns-datasheet-25360156.pdf?src-supplier=Allied+Electronics; ComponentLink10URL: http://datasheet.octopart.com/3299Y-1-503LF-Bourns-datasheet-8630115.pdf?src-supplier=Factory+Futures; ComponentLink10Description: http://datasheet.octopart.com/3299Y-1-503LF-Bourns-datasheet-8630115.pdf?src-supplier=Factory+Futures; ComponentLink11URL: http://datasheet.octopart.com/3299Y-1-503LF-Bourns-datasheet-7084861.pdf?src-supplier=Jameco; ComponentLink11Description: http://datasheet.octopart.com/3299Y-1-503LF-Bourns-datasheet-7084861.pdf?src-supplier=Jameco; ComponentLink12URL: http://datasheet.octopart.com/3299Y-1-503LF-Bourns-datasheet-3813.pdf?src-supplier=Allied+Electronics; ComponentLink12Description: http://datasheet.octopart.com/3299Y-1-503LF-Bourns-datasheet-3813.pdf?src-supplier=Allied+Electronics; ComponentLink13URL: http://datasheet.octopart.com/3299Y-1-503LF-Bourns-datasheet-8360331.pdf?src-supplier=Verical; ComponentLink13Description: http://datasheet.octopart.com/3299Y-1-503LF-Bourns-datasheet-8360331.pdf?src-supplier=Verical; Supplier 2: Mouser; Supplier Part Number 2: 652-3299Y-1-503LF
footprint 50kR-triangle
pins: 1, 2, 3

## 50K可變垂直-3296W-1-503LF
designator R?, comment 50kR
Trimmer; Cermet; Rest 50 Kilohms; PCB; Pwr-Rtg 0.5W; Dim 0.375InLx0.19InWx0.395InH; Manufacturer: Bourns; Manufacturer Part Number: 3296W-1-503LF; Tolerance: 10%; Power Rating: 500mW; Number of Turns: 25; Insulation Resistance: 1GR; Temperature Coefficient: 100ppm/°C; Supplier 1: Mouser; Stock 1: 3535; Pricing 1: 1 = 2.31000, 10 = 1.83000, 50 = 1.76000, 100 = 1.62000, 500 = 1.34000, 1000 = 1.27000, 2000 = 1.09000, 5000 = 1.06000, 10000 = 0.94700 (USD); Mount: Panel; Weight: 0.03oz; Number of Terminals: 3; Color: Blue; Contact Plating: Tin; Min Operating Temperature: -55°C; Max Operating Temperature: 125°C; Resistance: 50kR; Packaging: Rail/Tube; Package Quantity: 50; Composition: Cermet; Termination: Pin; Taper: Linear; Military Standard: Not; Max Power Dissipation: 500mW; Type: Potentiometer; Length: 9.53mm; Height: 0.395inch; Width: 9.53mm; Depth: 4.83mm; Radiation Hardening: No; REACH SVHC: No SVHC; Lead Free: Lead Free; ComponentLink1URL: https://datasheet.ciiva.com/6178/172577-6178371.pdf?src-supplier=Distrelec; ComponentLink1Description: https://datasheet.ciiva.com/6178/172577-6178371.pdf?src-supplier=Distrelec; ComponentLink2URL: https://datasheet.ciiva.com/27747/769485-27747554.pdf?src-supplier=Jameco; ComponentLink2Description: https://datasheet.ciiva.com/27747/769485-27747554.pdf?src-supplier=Jameco; ComponentLink3URL: https://datasheet.ciiva.com/11831/0900766b8069ccf4-11831072.pdf?src-supplier=RSComponents; ComponentLink3Description: https://datasheet.ciiva.com/11831/0900766b8069ccf4-11831072.pdf?src-supplier=RSComponents; ComponentLink4URL: https://datasheet.ciiva.com/29122/447285-da-01-en-trimmer-tht3296w-1-503lf-50k-0-5w-29122369.pdf?src-supplier=Conrad; ComponentLink4Description: https://datasheet.ciiva.com/29122/447285-da-01-en-trimmer-tht3296w-1-503lf-50k-0-5w-29122369.pdf?src-supplier=Conrad; ComponentLink5URL: https://datasheet.ciiva.com/3266/3296-3266197.pdf?src-supplier=Avnet; ComponentLink5Description: https://datasheet.ciiva.com/3266/3296-3266197.pdf?src-supplier=Avnet; ComponentLink6URL: https://datasheet.ciiva.com/2156/3296-2156902.pdf?src-supplier=Digi-Key; ComponentLink6Description: https://datasheet.ciiva.com/2156/3296-2156902.pdf?src-supplier=Digi-Key; ComponentLink7URL: https://datasheet.ciiva.com/25907/3296-25907261.pdf?src-supplier=Avnet+Europe; ComponentLink7Description: https://datasheet.ciiva.com/25907/3296-25907261.pdf?src-supplier=Avnet+Europe; ComponentLink8URL: https://datasheet.ciiva.com/1131/1815117-1131346.pdf?src-supplier=Element14; ComponentLink8Description: https://datasheet.ciiva.com/1131/1815117-1131346.pdf?src-supplier=Element14; ComponentLink9URL: https://datasheet.ciiva.com/20164/68-0300e-20164056.pdf?src-supplier=Rapid+Electronics; ComponentLink9Description: https://datasheet.ciiva.com/20164/68-0300e-20164056.pdf?src-supplier=Rapid+Electronics; ComponentLink10URL: https://datasheet.ciiva.com/30233/3296-30233887.pdf?src-supplier=Onlinecomponents.com; ComponentLink10Description: https://datasheet.ciiva.com/30233/3296-30233887.pdf?src-supplier=Onlinecomponents.com; ComponentLink11URL: http://datasheet.octopart.com/3296W-1-503LF-Bourns-datasheet-9257.pdf?src-supplier=Factory+Futures; ComponentLink11Description: http://datasheet.octopart.com/3296W-1-503LF-Bourns-datasheet-9257.pdf?src-supplier=Factory+Futures; ComponentLink12URL: http://datasheet.octopart.com/3296W-1-503LF-Bourns-datasheet-8754025.pdf?src-supplier=Electro+Sonic; ComponentLink12Description: http://datasheet.octopart.com/3296W-1-503LF-Bourns-datasheet-8754025.pdf?src-supplier=Electro+Sonic; ComponentLink13URL: http://datasheet.octopart.com/3296W-1-503LF-Bourns-datasheet-62345832.pdf?src-supplier=Element14; ComponentLink13Description: http://datasheet.octopart.com/3296W-1-503LF-Bourns-datasheet-62345832.pdf?src-supplier=Element14; ComponentLink14URL: http://datasheet.octopart.com/3296W-1-503LF-Bourns-datasheet-8458046.pdf?src-supplier=Factory+Futures; ComponentLink14Description: http://datasheet.octopart.com/3296W-1-503LF-Bourns-datasheet-8458046.pdf?src-supplier=Factory+Futures; ComponentLink15URL: http://datasheet.octopart.com/3296W-1-503LF-Bourns-datasheet-8359740.pdf?src-supplier=_legacy+Avnet; ComponentLink15Description: http://datasheet.octopart.com/3296W-1-503LF-Bourns-datasheet-8359740.pdf?src-supplier=_legacy+Avnet; ComponentLink16URL: http://datasheet.octopart.com/3296W-1-503LF-Bourns-datasheet-25360155.pdf?src-supplier=Allied+Electronics; ComponentLink16Description: http://datasheet.octopart.com/3296W-1-503LF-Bourns-datasheet-25360155.pdf?src-supplier=Allied+Electronics; ComponentLink17URL: http://datasheet.octopart.com/3296W-1-503LF-Bourns-datasheet-47378.pdf?src-supplier=Allied+Electronics; ComponentLink17Description: http://datasheet.octopart.com/3296W-1-503LF-Bourns-datasheet-47378.pdf?src-supplier=Allied+Electronics; ComponentLink18URL: http://datasheet.octopart.com/3296W-1-503LF-Bourns-datasheet-528316.pdf?src-supplier=Farnell; ComponentLink18Description: http://datasheet.octopart.com/3296W-1-503LF-Bourns-datasheet-528316.pdf?src-supplier=Farnell; ComponentLink19URL: http://datasheet.octopart.com/3296W-1-503LF-Bourns-datasheet-6152.pdf?src-supplier=Farnell; ComponentLink19Description: http://datasheet.octopart.com/3296W-1-503LF-Bourns-datasheet-6152.pdf?src-supplier=Farnell; ComponentLink20URL: http://datasheet.octopart.com/3296W-1-503LF.-Bourns-datasheet-7284159.pdf?src-supplier=Jameco; ComponentLink20Description: http://datasheet.octopart.com/3296W-1-503LF.-Bourns-datasheet-7284159.pdf?src-supplier=Jameco; ComponentLink21URL: http://datasheet.octopart.com/3296W-1-503LF-Bourns-datasheet-14175298.pdf?src-supplier=IIIC; ComponentLink21Description: http://datasheet.octopart.com/3296W-1-503LF-Bourns-datasheet-14175298.pdf?src-supplier=IIIC; ComponentLink22URL: http://datasheet.octopart.com/3296W-1-503LF-Bourns-datasheet-17840116.pdf?src-supplier=Jameco; ComponentLink22Description: http://datasheet.octopart.com/3296W-1-503LF-Bourns-datasheet-17840116.pdf?src-supplier=Jameco; Supplier Part Number 1: 652-3296W-1-503LF
footprint 50kR-vertical
pins: 1, 2, 3

## 60K-0805 resistor
designator R?, comment 60KR
footprint 0805-Resistor (Chip Resistor, 2-Leads, Body 2.00x1.25mm, IPC Medium Density)
pins: 1, 2

## 100-CRCW0805100RFKEAC
designator R?, comment 100R
Res Thick Film 0805 100 Ohm 1% 1/8W ±100ppm/°C Molded SMD Paper T/R; Manufacturer: Vishay; Manufacturer Part Number: CRCW0805100RFKEAC; Power Rating: 125mW; Supplier 1: Mouser; Supplier Part Number 1: 71-CRCW0805100RFKEAC; Stock 1: 249348; Pricing 1: 1 = 0.10000, 10 = 0.05900, 100 = 0.02400, 1000 = 0.01000, 5000 = 0.00700, 10000 = 0.00600, 25000 = 0.00500 (USD); Case/Package: 0805; Resistance: 100R; Tolerance: 1%; Lead Free: Lead Free; ComponentLink1URL: http://www.vishay.com/docs/28773/crcwce3.pdf?src-supplier=Digi-Key; ComponentLink1Description: http://www.vishay.com/docs/28773/crcwce3.pdf?src-supplier=Digi-Key; ComponentLink2URL: http://datasheet.octopart.com/CRCW0805100RFKEAC-Vishay-datasheet-100063072.pdf?src-supplier=Future+Electronics; ComponentLink2Description: http://datasheet.octopart.com/CRCW0805100RFKEAC-Vishay-datasheet-100063072.pdf?src-supplier=Future+Electronics
footprint 0805-Resistor (Chip Resistor, 2-Leads, Body 2.00x1.25mm, IPC Medium Density)
pins: 1, 2

## 100k-CRCW0805100KFKEAC
designator R?, comment 100kR
Res Thick Film 0805 100K Ohm 1% 1/8W ±100ppm/°C Molded SMD Paper T/R; Manufacturer: Vishay; Manufacturer Part Number: CRCW0805100KFKEAC; Power Rating: 125mW; Supplier 1: Mouser; Supplier Part Number 1: 71-CRCW0805100KFKEAC; Stock 1: 206602; Pricing 1: 1 = 0.10000, 10 = 0.05900, 100 = 0.02400, 1000 = 0.01000, 5000 = 0.00700, 10000 = 0.00600, 25000 = 0.00500 (USD); Mount: Surface Mount; Case/Package: Molded; Contact Plating: Tin; Min Operating Temperature: -55°C; Max Operating Temperature: 155°C; Composition: Thick Film; Termination: Wraparound; Temperature Coefficient: 100ppm/°C; Resistance: 100kR; Tolerance: 1%; Length: 2mm; Lead Free: Lead Free; ComponentLink1URL: http://www.vishay.com/docs/20035/dcrcwe3.pdf?src-supplier=Avnet+Asia; ComponentLink1Description: http://www.vishay.com/docs/20035/dcrcwe3.pdf?src-supplier=Avnet+Asia; ComponentLink2URL: http://www.vishay.com/docs/28773/crcwce3.pdf?src-supplier=Digi-Key; ComponentLink2Description: http://www.vishay.com/docs/28773/crcwce3.pdf?src-supplier=Digi-Key; ComponentLink3URL: http://datasheet.octopart.com/CRCW0805100KFKEAC-Vishay-datasheet-100063072.pdf?src-supplier=Future+Electronics; ComponentLink3Description: http://datasheet.octopart.com/CRCW0805100KFKEAC-Vishay-datasheet-100063072.pdf?src-supplier=Future+Electronics
footprint 0805-Resistor (Chip Resistor, 2-Leads, Body 2.00x1.25mm, IPC Medium Density)
pins: 1, 2

## 470-CRCW0805470RFKEAC
designator R?, comment 470R
Res Thick Film 0805 470 Ohm 1% 1/8W ±100ppm/°C Molded SMD Paper T/R; Manufacturer: Vishay; Manufacturer Part Number: CRCW0805470RFKEAC; Power Rating: 125mW; Supplier 1: Mouser; Supplier Part Number 1: 71-CRCW0805470RFKEAC; Stock 1: 31729; Pricing 1: 1 = 0.10000, 10 = 0.05900, 100 = 0.02400, 1000 = 0.01000, 5000 = 0.00700, 10000 = 0.00600 (USD); Case/Package: 0805; Resistance: 470R; Tolerance: 1%; Lead Free: Lead Free; ComponentLink1URL: http://www.vishay.com/docs/28773/crcwce3.pdf?src-supplier=Digi-Key; ComponentLink1Description: http://www.vishay.com/docs/28773/crcwce3.pdf?src-supplier=Digi-Key
footprint 0805-Resistor (Chip Resistor, 2-Leads, Body 2.00x1.25mm, IPC Medium Density)
pins: 1, 2

## (button)95C06A2T
designator SW?  (value not drawn)
Switch Tactile N.O. SPST Round Button PC Pins 0.05A 12VDC 0.98N Thru-Hole Bulk; Manufacturer: Grayhill; Manufacturer Part Number: 95C06A2T; Mechanical Life: 1000000Cycles; Actuator Material: Nylon; Switch Function: Off-Mom; Max Current Rating: 50mA; Voltage Rating (DC): 12V; Contact Resistance: 100mR; Illumination Type: Non-Illuminated; Switch Travel: 0.25mm; Actuator Type: Standard; Actuator Length: 0.79mm; Supplier 1: Mouser; Stock 1: 3565; Pricing 1: 1 = 0.29000, 10 = 0.25600, 100 = 0.22100, 1000 = 0.19200, 2000 = 0.15900, 10000 = 0.14800 (USD); Mount: Through Hole; Contact Material: Brass; Contact Plating: Silver; Min Operating Temperature: -25°C; Max Operating Temperature: 70°C; Orientation: Straight; Throw Configuration: SPST; Operating Force: 0.98N; Packaging: Bulk; Max Voltage Rating (DC): 12V; Termination: PC Pins; Electrical Life: 1000000Cycles; Length: 6.2mm; Depth: 6.2mm; Lead Free: Lead Free; ComponentLink1URL: https://datasheet.ciiva.com/2901/tact-95c06-2901680.pdf?src-supplier=Digi-Key; ComponentLink1Description: https://datasheet.ciiva.com/2901/tact-95c06-2901680.pdf?src-supplier=Digi-Key; ComponentLink2URL: https://datasheet.ciiva.com/16425/tact-95c06-16425018.pdf?src-supplier=Future+Electronics; ComponentLink2Description: https://datasheet.ciiva.com/16425/tact-95c06-16425018.pdf?src-supplier=Future+Electronics; ComponentLink3URL: https://datasheet.ciiva.com/16154/66tact-95c06-16154718.pdf?src-supplier=Onlinecomponents.com; ComponentLink3Description: https://datasheet.ciiva.com/16154/66tact-95c06-16154718.pdf?src-supplier=Onlinecomponents.com; ComponentLink4URL: http://datasheet.octopart.com/95C06A2T-Grayhill-datasheet-8326586.pdf?src-supplier=Sager+Electronics; ComponentLink4Description: http://datasheet.octopart.com/95C06A2T-Grayhill-datasheet-8326586.pdf?src-supplier=Sager+Electronics; ComponentLink5URL: http://datasheet.octopart.com/95C06A2T-Grayhill-datasheet-41175902.pdf?src-supplier=Electro+Sonic; ComponentLink5Description: http://datasheet.octopart.com/95C06A2T-Grayhill-datasheet-41175902.pdf?src-supplier=Electro+Sonic; ComponentLink6URL: http://datasheet.octopart.com/95C06A2T-Grayhill-datasheet-112065354.pdf?src-supplier=Newark; ComponentLink6Description: http://datasheet.octopart.com/95C06A2T-Grayhill-datasheet-112065354.pdf?src-supplier=Newark; Supplier Part Number 1: 706-95C06A2T
footprint button-dip
pins: 1, 2, 3, 4

## (button)FSM2JSMAATR
designator *
Manufacturer: TE Connectivity / Alcoswitch; Manufacturer Part Number: FSM2JSMAATR; Actuator Material: Nylon; Current Rating: 50mA; Voltage Rating (DC): 24V; Max Voltage Rating (DC): 12V; Contact Resistance: 100mR; Operating Force: 2.55N; Throw Configuration: SPST; Electrical Life: 100000Cycles; Illumination Type: Illuminated; Actuator Length: 0.7mm; Supplier 1: Mouser; Stock 1: 20096; Pricing 1: 1 = 0.26000, 10 = 0.25400, 25 = 0.23700, 100 = 0.22400, 250 = 0.21100, 500 = 0.19300 (USD); Mount: Surface Mount; Case/Package: SMD/SMT; Contact Material: Copper Alloy; Contact Plating: Silver; Min Operating Temperature: -20°C; Max Operating Temperature: 85°C; Type: Switch; Orientation: Straight; Package Quantity: 1200; Packaging: Tape and Reel; Contact Current Rating: 50mA; Termination: Gull Wing; Lead Free: Lead Free; ELV: Compliant; REACH SVHC: Unknown; ComponentLink1URL: https://datasheet.ciiva.com/17075/0900766b80fa5b0b-17075899.pdf?src-supplier=Allied+Electronics; ComponentLink1Description: https://datasheet.ciiva.com/17075/0900766b80fa5b0b-17075899.pdf?src-supplier=Allied+Electronics; Supplier Part Number 1: 506-FSM2JSMAATR
pins: 1, 2, 3, 4

## CD4071BM
designator IC?, comment CD4071
Manufacturer: Harris; Manufacturer Part Number: CD4071BM; Supplier 1: Mouser; RoHS: No; Stock 1: 2308; Pricing 1: 1 = 0.49000, 10 = 0.39200, 100 = 0.31400, 250 = 0.31400, 500 = 0.24700, 1000 = 0.19100 (USD); Supplier Part Number 1: 595-CD4071BM
footprint CD4081BM
part A pins: 1, 2, 3, 7, 14
part B pins: 4, 5, 6
part C pins: 8, 9, 10
part D pins: 11, 12, 13